# EAGLE library part ARDUINO_CONN-POWER (library arduino_jw)
Arduino Power Header This is the power header on the Arduino Uno R3. This connector is labeled with the following pin assignments: n/c IO Ref RESET +3.3V +5V GND GND VIN NOTE: Be sure you install this connector with the correct orientation on your PCB layout. Pin 1 has a square pad to assist with orientation.
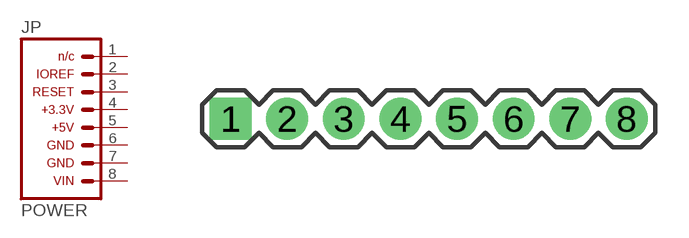
[diagram p1: symbol with the pads of CONN-1X08; footprint CONN-1X08]

Designator prefix JP

## ARDUINO_CONN-POWERSIP  [CONN-1X08]
1  1  pas
2  2  pas
3  3  pas
4  4  pas
5  5  pas
6  6  pas
7  7  pas
8  8  pas

## Footprint CONN-1X08 (pad centres in mm)
1x8 SIP header with pin 1 marked by a square pad.
drill 1.016 pad 1.88 square: 1 0,0
drill 1.016 pad 1.88: 2 2.54,0; 3 5.08,0; 4 7.62,0; 5 10.16,0; 6 12.7,0; 7 15.24,0; 8 17.78,0